# Altium footprint library QFN-28(4.0X4.0).PcbLib: 1 footprints
Each footprint in its own frame and in the unit in brackets; x right, y up, seen from the top. Pads: shape width x height; smd on the part's side, far side on the other; paste and mask are expansions set on the pad; w line width, h text height; cw(c..) or ccw(c..) is an arc to the next point about the centre after c.
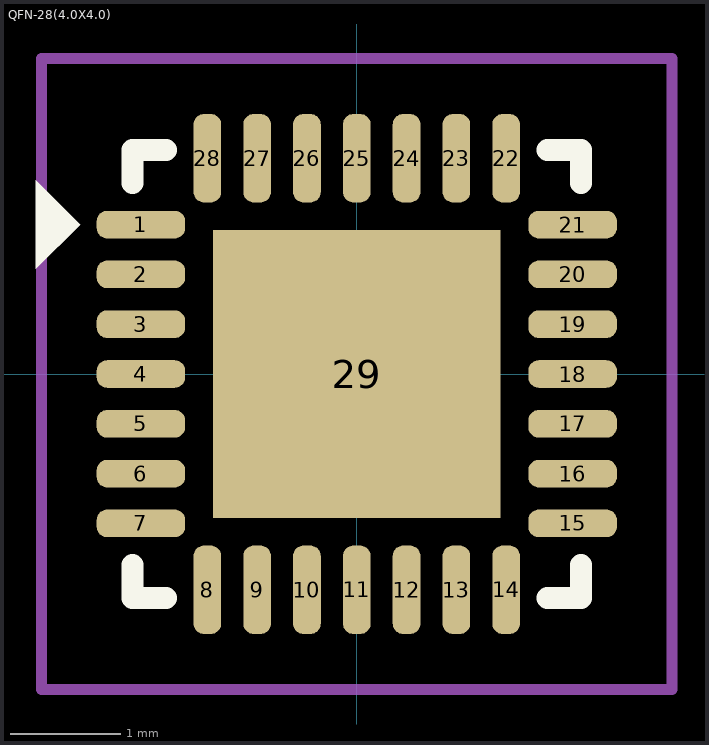
[diagram p0: the footprint, top view; thin cyan lines are the x and y axes]

## QFN-28(4.0X4.0) [mm]
height 1
pads (29):
  rrect75% 0.8x0.25 smd: 1(-1.95,1.35) 2(-1.95,0.9) 3(-1.95,0.45) 4(-1.95,0) 5(-1.95,-0.45) 6(-1.95,-0.9) 7(-1.95,-1.35) 15(1.95,-1.35) 16(1.95,-0.9) 17(1.95,-0.45) 18(1.95,0) 19(1.95,0.45) 20(1.95,0.9) 21(1.95,1.35)
  rrect75% 0.25x0.8 smd: 8(-1.35,-1.95) 9(-0.9,-1.95) 10(-0.45,-1.95) 11(0,-1.95) 12(0.45,-1.95) 13(0.9,-1.95) 14(1.35,-1.95) 22(1.35,1.95) 23(0.9,1.95) 24(0.45,1.95) 25(0,1.95) 26(-0.45,1.95) 27(-0.9,1.95) 28(-1.35,1.95)
  rect 2.6x2.6 smd: 29(0,0)
Top Overlay:
  region: -2.9,0.95 -2.9,1.75 -2.5,1.35
  lines w0.2: -2.025,-1.725 -2.025,-2.025 -1.725,-2.025 ; -2.025,1.725 -2.025,2.025 -1.725,2.025 ; 1.725,-2.025 2.025,-2.025 2.025,-1.725 ; 1.725,2.025 2.025,2.025 2.025,1.725
Top Courtyard:
  lines w0.1: -2.85,-2.85 2.85,-2.85 2.85,2.85 -2.85,2.85 -2.85,-2.85
3D body "QFN45P400X400X100_HS-29N.step": height 1, standoff 0, extent -2.01,-2.01 2.01,2.01